# EAGLE library part EC25-MINIPCIE (library 1zac)
Quectel 4G + GNSS + IOT module Mini PCIe Interface
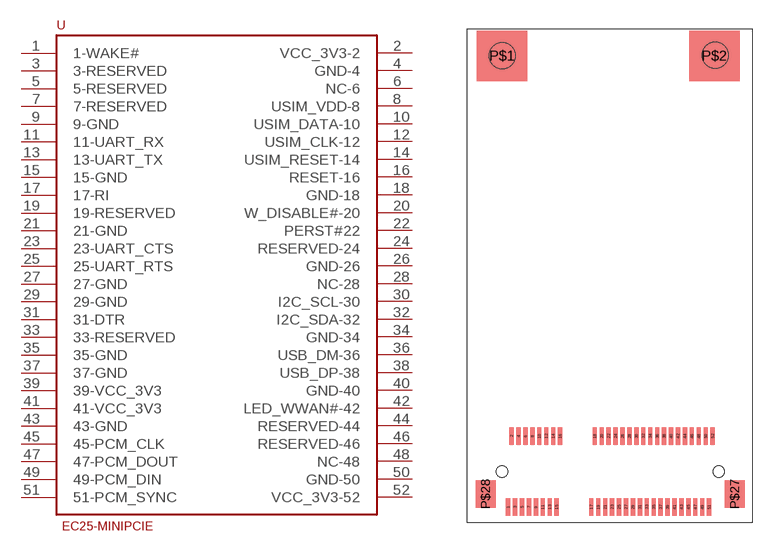
[diagram p13: symbol with the pads of EC25-MINIPCIE; footprint EC25-MINIPCIE]

Designator prefix -

## EC25-MINIPCIE (MPN: Quectel EC25-x Mini Pci express)  [EC25-MINIPCIE]
1  1-WAKE#
2  VCC_3V3-2
3  3-RESERVED
4  GND-4
5  5-RESERVED
6  NC-6
7  7-RESERVED
8  USIM_VDD-8
9  9-GND
10  USIM_DATA-10
11  11-UART_RX
12  USIM_CLK-12
13  13-UART_TX
14  USIM_RESET-14
15  15-GND
16  RESET-16
17  17-RI
18  GND-18
19  19-RESERVED
20  W_DISABLE#-20
21  21-GND
22  PERST#22
23  23-UART_CTS
24  RESERVED-24
25  25-UART_RTS
26  GND-26
27  27-GND
28  NC-28
29  29-GND
30  I2C_SCL-30
31  31-DTR
32  I2C_SDA-32
33  33-RESERVED
34  GND-34
35  35-GND
36  USB_DM-36
37  37-GND
38  USB_DP-38
39  39-VCC_3V3
40  GND-40
41  41-VCC_3V3
42  LED_WWAN#-42
43  43-GND  pwr
44  RESERVED-44
45  45-PCM_CLK
46  RESERVED-46
47  47-PCM_DOUT
48  NC-48
49  49-PCM_DIN
50  GND-50
51  51-PCM_SYNC
52  VCC_3V3-52

## Footprint EC25-MINIPCIE (pad centres in mm)
smd 0.5 x 2: 1 4.8,1.79; 2 5.2,9.99; 3 5.6,1.79; 4 6,9.99; 5 6.4,1.79; 6 6.8,9.99; 7 7.2,1.79; 8 7.6,9.99; 9 8,1.79; 10 8.4,9.99; 11 8.8,1.79; 12 9.2,9.99; 13 9.6,1.79; 14 10,9.99; 15 10.4,1.79; 16 10.8,9.99; 17 14.4,1.79; 18 14.8,9.99; 19 15.2,1.79; 20 15.6,9.99; 21 16,1.79; 22 16.4,9.99; 23 16.8,1.79; 24 17.2,9.99; 25 17.6,1.79; 26 18,9.99; 27 18.4,1.79; 28 18.8,9.99; 29 19.2,1.79; 30 19.6,9.99; 31 20,1.79; 32 20.4,9.99; 33 20.8,1.79; 34 21.2,9.99; 35 21.6,1.79; 36 22,9.99; 37 22.4,1.79; 38 22.8,9.99; 39 23.2,1.79; 40 23.6,9.99; 41 24,1.79; 42 24.4,9.99; 43 24.8,1.79; 44 25.2,9.99; 45 25.6,1.79; 46 26,9.99; 47 26.4,1.79; 48 26.8,9.99; 49 27.2,1.79; 50 27.6,9.99; 51 28,1.79; 52 28.4,9.99
smd 5.8 x 5.8: P$1 4.1,53.9; P$2 28.6,53.9
smd 2.3 x 3.2: P$27 30.95,3.29; P$28 2.2,3.29
hole 1.3 at 4.1,5.89
hole 1.3 at 29.1,5.89
hole 3 at 4.1,53.9
hole 3 at 28.7,54